# Altium footprint library DiscreteSemiconductors.PcbLib: 16 footprints
Each footprint in its own frame and in the unit in brackets; x right, y up, seen from the top. Pads: shape width x height; smd on the part's side, far side on the other; paste and mask are expansions set on the pad; w line width, h text height; cw(c..) or ccw(c..) is an arc to the next point about the centre after c.
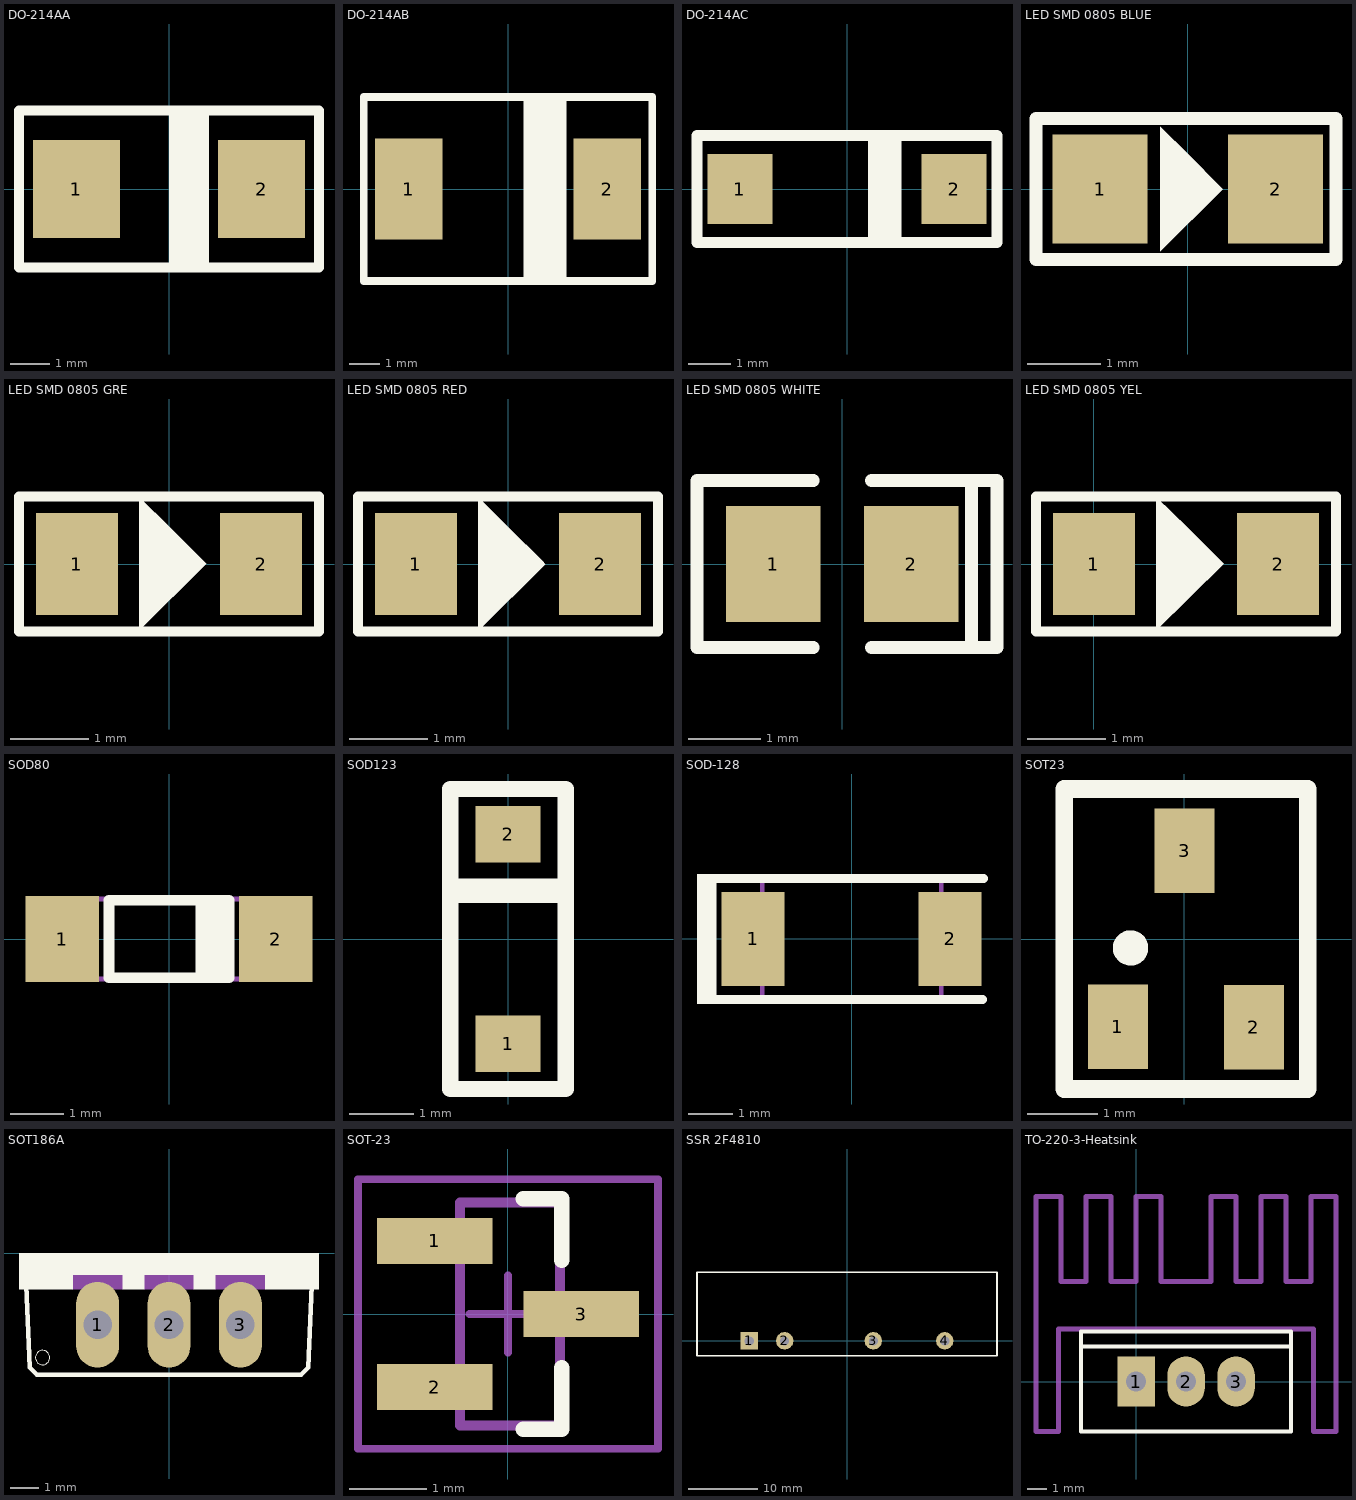
[diagram p0: the footprints below, top view; thin cyan lines are the x and y axes]

## DO-214AA [mm]
pads (2):
  rect 2.2x2.5 smd: 1(-2.35,0) 2(2.35,0)
Top Overlay:
  rectangle: 0,-1.905 1.016,1.905
  lines w0.254: -3.81,-2 -3.81,2 3.81,2 3.81,-2 -3.81,-2
3D body "SW3dPS-DO-214AA SMB.STEP": height 2.3, standoff 0, extent -2.7,-1.8 2.7,1.8

## DO-214AB [mm]
pads (2):
  rect 2.2x3.3 smd: 1(-3.238,0) 2(3.238,0)
Top Overlay:
  rectangle: 0.5,-3 1.905,3
  lines w0.254: -4.699,-3 4.699,-3 4.699,3 -4.699,3 -4.699,-3
3D body "SW3dPS-DO-214AB SMC.STEP": height 2.2, standoff -0.1, extent -4.102,-2.95 3.848,2.95

## DO-214AC [mm]
pads (2):
  rect 1.55x1.65 smd: 1(-2.54,0) 2(2.54,0)
Top Overlay:
  rectangle: 0.5,-1.27 1.295,1.227
  lines w0.254: -3.56,-1.27 3.56,-1.27 3.56,1.27 -3.56,1.27 -3.56,-1.27
3D body "DO-214AC SMA.STEP": height 2.4, standoff 0, extent -2.592,-1.292 2.608,1.308

## LED SMD 0805 BLUE [mm] "Chip LED; BLUE; Body 2.0 x 1.3 mm (LxW typ) [2012]"
height 0.65
pads (2):
  rect 1.3x1.5 smd: 1(-1.204,0) 2(1.204,0)
Top Overlay:
  region: -0.381,0.851 -0.381,-0.851 0.479,0 0.439,0.04 0.019,0.46
  lines w0.178: -2.083,-0.965 -2.083,0.965 2.032,0.965 2.032,-0.965 -2.083,-0.965
3D body "User Library-led_0805(2).step": height 1.1, standoff 0, extent -1.006,-0.628 1.014,0.622

## LED SMD 0805 GRE [mm]
pads (2):
  rect 1.05x1.3 smd: 1(-1.177,0) 2(1.177,0)
Top Overlay:
  region: -0.381,0.853 -0.381,-0.848 0.479,0.003 0.439,0.043 0.019,0.463
  lines w0.127: -1.918,-0.864 -1.918,0.864 1.918,0.864 1.918,-0.864 -1.918,-0.864
3D body "User Library-led_0805 GRE.STEP": height 1.1, standoff 0, extent -1.01,-0.63 1.01,0.62

## LED SMD 0805 RED [mm]
pads (2):
  rect 1.05x1.3 smd: 1(-1.177,0) 2(1.177,0)
Top Overlay:
  region: -0.381,0.851 -0.381,-0.851 0.479,0 0.439,0.04 0.019,0.46
  lines w0.127: -1.918,-0.864 -1.918,0.864 1.918,0.864 1.918,-0.864 -1.918,-0.864
3D body "User Library-led_0805.STEP": height 1.1, standoff 0, extent -1.02,-0.62 1,0.63

## LED SMD 0805 WHITE [mm]
pads (2):
  rect 1.3x1.6 smd: 1(-0.95,0) 2(0.95,0)
Top Overlay:
  lines w0.178: -0.4,-1.15 -2,-1.15 -2,1.15 -0.4,1.15 ; 0.4,-1.15 2.13,-1.15 2.13,1.15 0.4,1.15 ; 1.78,-1.15 1.78,1.15
3D body: height 1.14, standoff 0.61, extent -0.701,-0.629 0.696,0.641
3D body: height 0.61, standoff 0, extent -1.082,-0.629 1.077,0.641

## LED SMD 0805 YEL [mm]
pads (2):
  rect 1.05x1.3 smd: 1(0,0) 2(2.355,0)
Top Overlay:
  region: 0.799,0.853 0.799,-0.848 1.659,0.003 1.619,0.043 1.199,0.463
  lines w0.127: -0.74,-0.864 3.095,-0.864 3.095,0.864 -0.74,0.864 -0.74,-0.864
3D body "User Library-led_0805 YEL.STEP": height 1.1, standoff 0, extent 0.117,-0.63 2.137,0.62

## SOD80 [mm]
pads (2):
  rect 1.37x1.62 smd: 1(-2,0) 2(2,0)
Top Overlay:
  rectangle: 0.5,-0.725 1.125,0.75
  lines w0.2: -1.125,-0.725 1.125,-0.725 1.125,0.725 -1.125,0.725 -1.125,-0.725
Mechanical 13:
  lines w0.1: -1.8,-0.75 1.8,-0.75 1.8,0.75 -1.8,0.75 -1.8,-0.75
3D body "SW3dPS-SOD80.STEP": height 1.61, standoff 0.01, extent -1.825,-0.787 1.875,0.813

## SOD123 [mm]
pads (2):
  rect 1.02x0.88 smd: 1(0,-1.635) 2(0,1.635)
Top Overlay:
  lines w0.254: -0.9,0.689 0.9,0.689 ; -0.9,0.816 0.9,0.816 ; -0.9,-2.34 0.9,-2.34 0.9,2.34 -0.9,2.34 -0.9,-2.34
3D body "SW3DPS-SOD123-DEFAULT.STEP": height 1.27, standoff 0, extent -0.795,-1.85 0.805,1.85

## SOD-128 [mm] "SMD, 2-Leads, Body 4x2.7mm, Height 1.1mm"
height 1.1
pads (2):
  rect 1.4x2.1 smd paste-0.1: 1(-2.2,0) 2(2.2,0)
Top Overlay:
  rectangle: -3.453,-1.45 -3.021,1.45
  lines w0.2: -3.023,-1.35 2.921,-1.35 ; -3.023,1.35 2.946,1.35
Mechanical 5:
  lines w0.1: -2,-0.95 -2.5,-0.95 -2.5,0.95 -2,0.95 ; 2,-0.95 2.5,-0.95 2.5,0.95 2,0.95 ; -2,-1.35 -2,1.35 2,1.35 2,-1.35 -2,-1.35
3D body: height 1.1, standoff 0, extent -2,-1.35 2,1.35
3D body: height 0.22, standoff 0, extent -2.5,-0.95 -2,0.95
3D body: height 0.22, standoff 0, extent 2,-0.95 2.5,0.95

## SOT23 [mm] "SOT 23 _ 1-3-2"
height 1.27
pads (3):
  rect 0.85x1.2 smd: 1(-0.94,-1.245) 2(0.985,-1.25) 3(0.005,1.25)
Top Overlay:
  circle w0.25: c-0.76,-0.127 r0.125
  lines w0.254: -1.7,-2.125 1.75,-2.125 1.75,2.125 -1.7,2.125 -1.7,-2.125
3D body "SW3DPS-SOT-23-DEFAULT.STEP": height 1.06, standoff -0.04, extent -1.475,-1.326 1.525,1.174

## SOT186A [mil]
pads (3):
  oval 60x120 hole 40: 1(-100,-100) 2(0,-100) 3(100,-100)
Top Overlay:
  circle w0: c-177,-146 r10
  region: 210,-50 135,-50 135,-30 210,-30
  region: 65,-50 35,-50 35,-30 65,-30
  region: -35,-50 -65,-50 -65,-30 -35,-30
  region: -135,-50 -210,-50 -210,-30 -135,-30
  region: 210,-30 -210,-30 -210,0 210,0
  lines w6: -200,-45 -195,-160 -185,-170 185,-170 195,-160 200,-45
Mechanical 13:
  region: 135,-50 65,-50 65,-30 135,-30
  region: 35,-50 -35,-50 -35,-30 35,-30
  region: -65,-50 -135,-50 -135,-30 -65,-30

## SOT-23 [mm] "SOT23, 3-Leads, Body 2.9x1.3mm, Pitch 0.95mm, Lead Span 2.5mm, IPC Medium Density"
height 1.1
pads (3):
  rect 1.5x0.6 smd: 1(-0.95,0.95) 2(-0.95,-0.95) 3(0.95,0)
Top Overlay:
  lines w0.2: 0.2,-1.5 0.7,-1.5 0.7,-0.7 ; 0.2,1.5 0.7,1.5 0.7,0.7
Mechanical 5:
  lines w0.127: -1.16,-1.15 -0.625,-1.15 -0.625,-1.45 0.675,-1.45 0.675,-0.2 1.21,-0.2 1.21,0.2 0.675,0.2 0.675,1.45 -0.625,1.45 -0.625,1.15 -1.16,1.15 -1.16,0.75 -0.625,0.75 -0.625,-0.75 -1.16,-0.75 -1.16,-1.15
Mechanical 15:
  lines w0.1: -0.5,0 0.5,0 ; 0,-0.5 0,0.5 ; -1.95,-1.75 -1.95,1.75 1.95,1.75 1.95,-1.75 -1.95,-1.75
3D body "SW3dPS-sot-3p290x130ll237h100.STEP": height 1, standoff 0, extent -1.16,-1.45 1.21,1.45

## SSR 2F4810 [mm]
pads (4):
  rect 2.5x2.5 hole 1.3: 1(-14.01,0)
  round 2.5 hole 1.3: 2(-8.93,0) 3(3.77,0) 4(14.01,0)
Top Overlay:
  lines w0.254: -21.5,-2.159 -21.5,9.841 21.5,9.841 21.5,-2.159 -21.5,-2.159
3D body "ssr.STEP": height 25, standoff -6, extent -21.5,-2.221 21.5,9.779

## TO-220-3-Heatsink [mil] "TO-220; Heatsink; 3 Leads; Solder Pad 35mil"
pads (3):
  rect 75x100 hole 40: 1(0,0)
  oval 75x100 hole 40: 2(100,0) 3(200,0)
Top Overlay:
  lines w7.87: -110,70 310,70 ; -110,-100 -110,100 310,100 310,-100 -110,-100
Mechanical 1:
  lines w10: -200,-100 -200,370 ; 400,-100 400,370
Mechanical 13:
  lines w10: -200,-100 -155,-100 -155,105 355,105 355,-100 400,-100 ; -200,370 -150,370 -150,200 -100,200 -100,370 -50,370 -50,200 0,200 0,370 50,370 50,200 150,200 150,370 200,370 200,200 250,200 250,370 300,370 300,200 350,200 350,370 400,370
3D body "User Library-heatsink TO126.step": height 985.25, standoff -148.61, extent -191,-76.63 390.94,348.62
3D body "User Library-TO-220-1.step": height 810.24, standoff -322.83, extent -94.88,-83.16 294.88,94